# EAGLE library part Q_OPA2340 (library MRDT-2014-All)
5V Rail to Rail 4.4Mhz Dual OpAmp
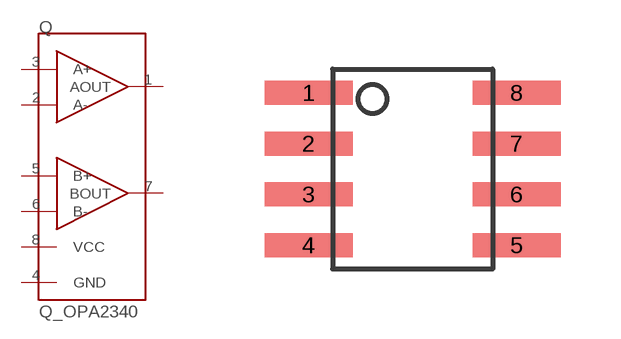
[diagram p19: symbol with the pads of SOIC8; footprint SOIC8]

Designator prefix Q

## Q_OPA2340  [SOIC8]
1  AOUT
2  A-
3  A+
4  GND
5  B+
6  B-
7  BOUT
8  VCC

## Footprint SOIC8 (pad centres in mm)
smd 2.2 x 0.6: 1 -2.6,1.905; 2 -2.6,0.635; 3 -2.6,-0.635; 4 -2.6,-1.905; 5 2.6,-1.905; 6 2.6,-0.635; 7 2.6,0.635; 8 2.6,1.905